# EAGLE library part 1445055-8 (library con-amp1)
Micro MATE-N-LOK Connectors grid 1.5 mm Source: ENG_CD_1445055_A.pdf
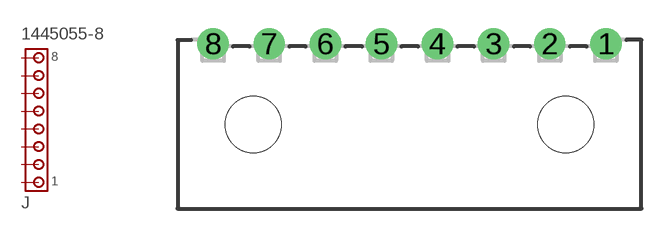
[diagram p144: symbol with the pads of 1445055-8; footprint 1445055-8]

Designator prefix J

## 1445055-8  [1445055-8]
1  1  pas
2  2  pas
3  3  pas
4  4  pas
5  5  pas
6  6  pas
7  7  pas
8  8  pas

## Footprint 1445055-8 (pad centres in mm)
Micro MATE-N-LOK Connectors grid 1.5 mm Source: ENG_CD_1445055_A.pdf
drill 1 pad 1.676 round: 1 10.5,4.32; 2 7.5,4.32; 3 4.5,4.32; 4 1.5,4.32; 5 -1.5,4.32; 6 -4.5,4.32; 7 -7.5,4.32; 8 -10.5,4.32
hole 3 at -8.35,0
hole 3 at 8.35,0